# EAGLE library part MODROB_CARRIER (library modular_robotics)
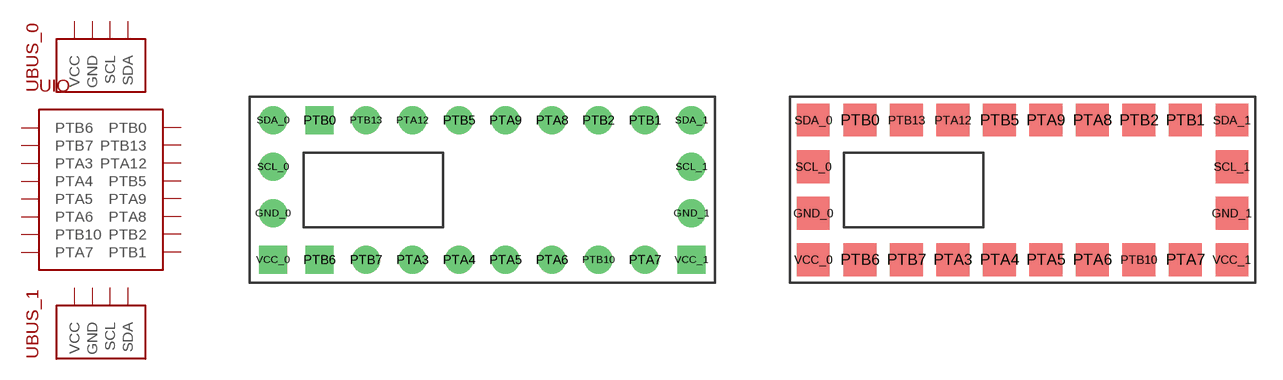
[diagram p13: symbol with the pads of CARRIER_DIP; footprints CARRIER_DIP, CARRIER_SMD_SQUARE]

Designator prefix -; gates IO=MODROB_IO BUS_0=MODROB_BUS BUS_1=MODROB_BUS

## MODROB_CARRIER-DIP  [CARRIER_DIP]
GND_0  BUS_0:GND
GND_1  BUS_1:GND
PTA3  IO:PTA3
PTA4  IO:PTA4
PTA5  IO:PTA5
PTA6  IO:PTA6
PTA7  IO:PTA7
PTA8  IO:PTA8
PTA9  IO:PTA9
PTA12  IO:PTA12
PTB0  IO:PTB0
PTB1  IO:PTB1
PTB2  IO:PTB2
PTB5  IO:PTB5
PTB6  IO:PTB6
PTB7  IO:PTB7
PTB10  IO:PTB10
PTB13  IO:PTB13
SCL_0  BUS_0:SCL
SCL_1  BUS_1:SCL
SDA_0  BUS_0:SDA
SDA_1  BUS_1:SDA
VCC_0  BUS_0:VCC
VCC_1  BUS_1:VCC

## MODROB_CARRIER-SMD_SQUARE  [CARRIER_SMD_SQUARE]
Pads as for CARRIER_DIP

## MODROB_CARRIER-SMD  [CARRIER_SMD]
Pads as for CARRIER_DIP

## Footprint CARRIER_DIP (pad centres in mm)
drill 1.016: GND_0 -11.43,-1.27; GND_1 11.43,-1.27; PTA3 -3.81,-3.81; PTA4 -1.27,-3.81; PTA5 1.27,-3.81; PTA6 3.81,-3.81; PTA7 8.89,-3.81; PTA8 3.81,3.81; PTA9 1.27,3.81; PTA12 -3.81,3.81; PTB1 8.89,3.81; PTB2 6.35,3.81; PTB5 -1.27,3.81; PTB7 -6.35,-3.81; PTB10 6.35,-3.81; PTB13 -6.35,3.81; SCL_0 -11.43,1.27; SCL_1 11.43,1.27; SDA_0 -11.43,3.81; SDA_1 11.43,3.81
drill 1.016 square: PTB0 -8.89,3.81; PTB6 -8.89,-3.81; VCC_0 -11.43,-3.81; VCC_1 11.43,-3.81

## Footprint CARRIER_SMD_SQUARE (pad centres in mm)
smd 1.778 x 1.778: GND_0 -11.43,-1.27; GND_1 11.43,-1.27; PTA3 -3.81,-3.81; PTA4 -1.27,-3.81; PTA5 1.27,-3.81; PTA6 3.81,-3.81; PTA7 8.89,-3.81; PTA8 3.81,3.81; PTA9 1.27,3.81; PTA12 -3.81,3.81; PTB0 -8.89,3.81; PTB1 8.89,3.81; PTB2 6.35,3.81; PTB5 -1.27,3.81; PTB6 -8.89,-3.81; PTB7 -6.35,-3.81; PTB10 6.35,-3.81; PTB13 -6.35,3.81; SCL_0 -11.43,1.27; SCL_1 11.43,1.27; SDA_0 -11.43,3.81; SDA_1 11.43,3.81; VCC_0 -11.43,-3.81; VCC_1 11.43,-3.81

## Footprint CARRIER_SMD (pad centres in mm)
smd 3.302 x 1.778: GND_0 -12.192,-1.27; GND_1 12.192,-1.27; SCL_0 -12.192,1.27; SCL_1 12.192,1.27; SDA_0 -12.192,3.81; SDA_1 12.192,3.81; VCC_0 -12.192,-3.81; VCC_1 12.192,-3.81
smd 1.778 x 4.572: PTA3 -3.81,-3.81; PTA4 -1.27,-3.81; PTA5 1.27,-3.81; PTA6 3.81,-3.81; PTA7 8.89,-3.81; PTA8 3.81,3.81; PTA9 1.27,3.81; PTA12 -3.81,3.81; PTB0 -8.89,3.81; PTB1 8.89,3.81; PTB2 6.35,3.81; PTB5 -1.27,3.81; PTB6 -8.89,-3.81; PTB7 -6.35,-3.81; PTB10 6.35,-3.81; PTB13 -6.35,3.81